# EAGLE library part PBU6U_S (library switch-e-switch)
6PDT PUSHBUTTON SWITCH
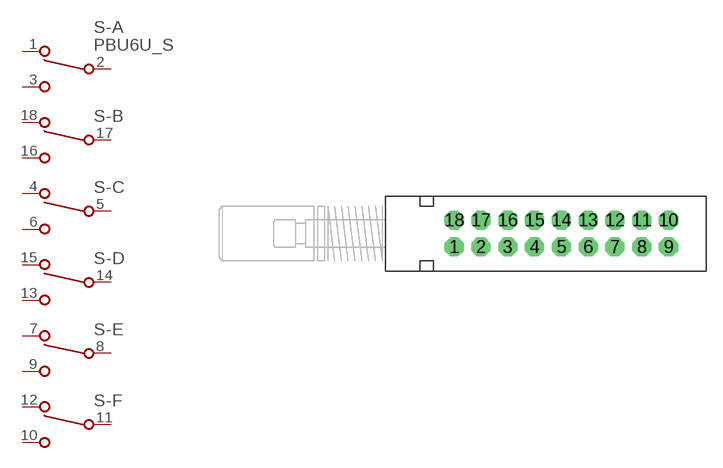
[diagram p11: symbol with the pads of PBH6U; footprint PBH6U]

Designator prefix S; gates -A=1PDT-NV -B=1PDT-N -C=1PDT-N -D=1PDT-N -E=1PDT-N -F=1PDT-N

## PBU6U_S  [PBH6U]
1  -A:A-NC  pas
2  -A:A-COM  pas
3  -A:A-NO  pas
4  -C:A-NC  pas
5  -C:A-COM  pas
6  -C:A-NO  pas
7  -E:A-NC  pas
8  -E:A-COM  pas
9  -E:A-NO  pas
10  -F:A-NO  pas
11  -F:A-COM  pas
12  -F:A-NC  pas
13  -D:A-NO  pas
14  -D:A-COM  pas
15  -D:A-NC  pas
16  -B:A-NO  pas
17  -B:A-COM  pas
18  -B:A-NC  pas

## Footprint PBH6U (pad centres in mm)
Pushbutton Switch PBH Series
drill 0.813 pad 1.778 octagon: 1 -2.5,-1.25; 2 0,-1.25; 3 2.5,-1.25; 4 5,-1.25; 5 7.5,-1.25; 6 10,-1.25; 7 12.5,-1.25; 8 15,-1.25; 9 17.5,-1.25; 10 17.5,1.25; 11 15,1.25; 12 12.5,1.25; 13 10,1.25; 14 7.5,1.25; 15 5,1.25; 16 2.5,1.25; 17 0,1.25; 18 -2.5,1.25